# Altium schematic symbol library 5019530507.Schlib: 1 symbol
Pins are listed as number, name and electrical type; pins without a type are passive.

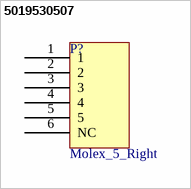
[diagram p0: symbol 5019530507]

## 5019530507
designator P?, comment Molex_5_Right
5 Pin Right Molex PCB Header
pins: 1, 2, 3, 4, 5, 6 NC